# EAGLE library part AP53781 (library hot-wand)
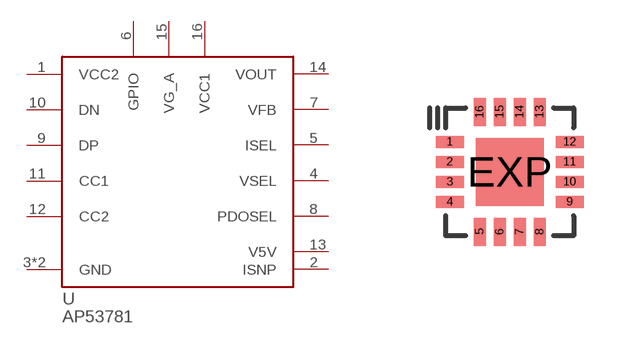
[diagram p5: symbol with the pads of QFN3030-16; footprint QFN3030-16]

Designator prefix U

## AP53781-QFN3030-16  [QFN3030-16]
1  VCC2
2  ISNP
3  GND
4  VSEL
5  ISEL
6  GPIO
7  VFB
8  PDOSEL
9  DP
10  DN
11  CC1
12  CC2
13  V5V
14  VOUT
15  VG_A
16  VCC1
EXP  GND

## Footprint QFN3030-16 (pad centres in mm)
smd 0.7 x 0.3: 1 -1.5,0.75; 2 -1.5,0.25; 3 -1.5,-0.25; 4 -1.5,-0.75; 9 1.5,-0.75; 10 1.5,-0.25; 11 1.5,0.25; 12 1.5,0.75
smd 0.3 x 0.7: 5 -0.75,-1.5; 6 -0.25,-1.5; 7 0.25,-1.5; 8 0.75,-1.5; 13 0.75,1.5; 14 0.25,1.5; 15 -0.25,1.5; 16 -0.75,1.5
smd 1.7 x 1.7: EXP 0,0